# Altium integrated library TI Power Management Linear Regulator Dual Channel LDO.IntLib: 299 symbols (part 2 of 15)
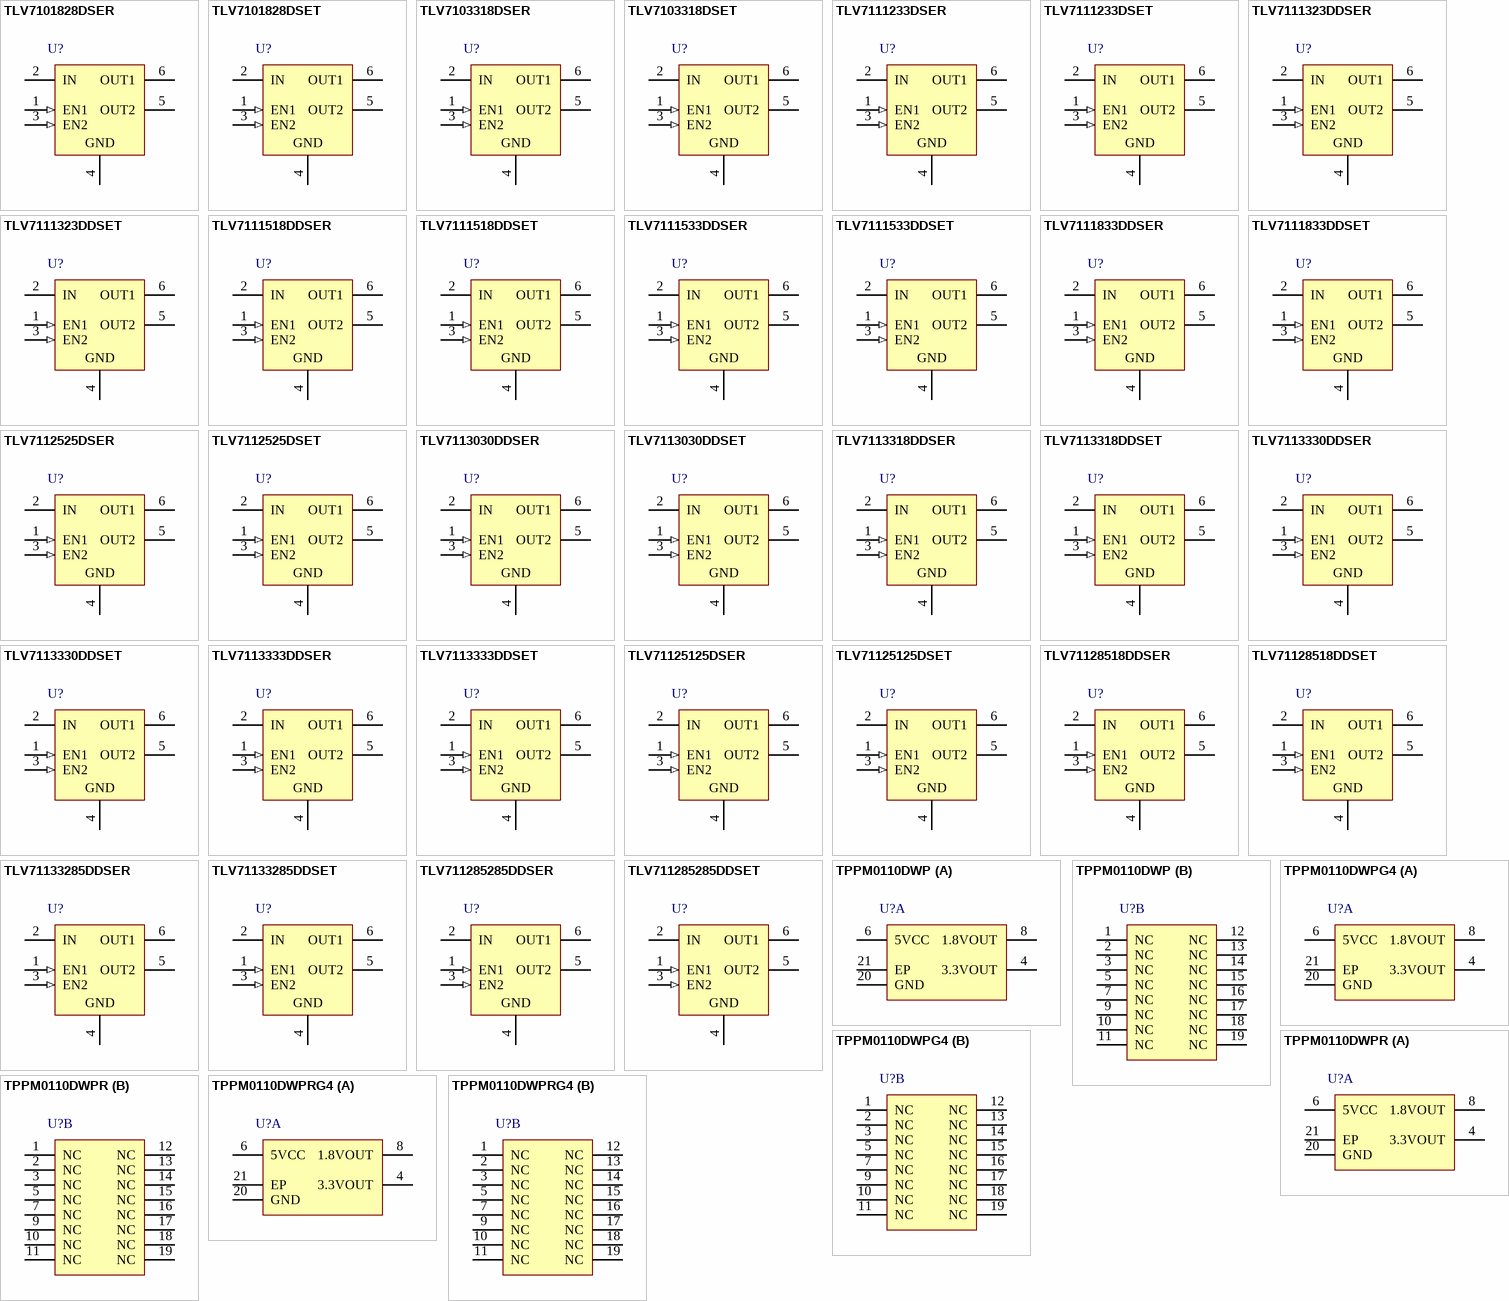
[diagram p12: symbols TLV7101828DSER to TPPM0110DWPRG4]

## TLV7113330DDSET
designator U?
Dual Output High PSRR LDO, 200 mA, Fixed 3.3, 3.0 V Output, 2 to 5.5 V Input, 6-pin WSON (DSE), -40 to 125 degC, Green (RoHS & no Sb/Br); Manufacturer: Texas Instruments; PartNumber: TLV7113330DDSET; Iout(Max)(A): 0.2; SubFamily: Dual Channel LDO; Vdo(Typ)(mV): 150; Vin(Max)(V): 5.5; Vin(Min)(V): 2; DatasheetVersion: SBVS142A; PackageVersion: 4207810/A; PackageReference: DSE6; PackageDescription: 6-Pin Plastic Small Outline, Body 1.5 x 1.5 mm, Pitch 0.5 mm; Supplier 1: Digi-Key; Supplier Part Number 1: 296-32422-2-ND; Supplier 2: Digi-Key; Supplier Part Number 2: 296-32422-1-ND; Supplier 3: Digi-Key; Supplier Part Number 3: 296-32422-6-ND; Supplier 4: Mouser; Supplier Part Number 4: 595-TLV7113330DDSET; Eco-Plan: Green (RoHS & no Sb/Br); Fixed Output Options(V): 3.3, 3.0; Mounting Technology: Surface Mount; ComponentLink1Description: Manufacturer URL; ComponentLink1URL: http://www.ti.com/; ComponentLink2Description: Datasheet; ComponentLink2URL: http://www.ti.com/general/docs/lit/getliterature.tsp?genericPartNumber=TLV7113330D&fileType=pdf; ComponentLink3Description: Package Specification; ComponentLink3URL: http://www.ti.com/litv/pdf/mpds287
footprint TI-DSE6_V (SON, 6-Leads, Body 1.5x1.5mm, Pitch 0.5mm)
pins: 1 EN1 (in) "Enable pin for regulator 1.Driving EN1 over 0.9V turns on regulator 1. Driving EN below0.4V puts regulator 1 into shutdown mode.", 2 IN (power) "Input pin. A small capacitor is needed from this pin to ground to assure stability. See Input and Output Capacitor Requirements in the Application Information section for more details.", 3 EN2 (in) "Enable pin for regulator 2.Driving EN2 over 0.9V turns on regulator 2. Driving EN2 below 0.4V puts regulator 2 into shutdown mode.", 4 GND (power) "Ground pin", 5 OUT2 (power) "Regulated output voltage pin. A small 1mF ceramic capacitor is needed from this pin to ground to assure stability. See Input and Output Capacitor Requirements in the Application Information section for more details.", 6 OUT1 (power) "Regulated output voltage pin. A small 1mF ceramic capacitor is needed from this pin to ground to assure stability. See Input and Output Capacitor Requirements in the Application Information section for more details."

## TLV7113333DDSER
designator U?
Dual Output High PSRR LDO, 200 mA, Fixed 3.3 V Output, 2 to 5.5 V Input, 6-pin WSON (DSE), -40 to 125 degC, Green (RoHS & no Sb/Br); Manufacturer: Texas Instruments; PartNumber: TLV7113333DDSER; Fixed Output Options(V): 3.3; Iout(Max)(A): 0.2; Iq(Typ)(mA): 0.03; SubFamily: Dual Channel LDO; Vdo(Typ)(mV): 150; Vin(Max)(V): 5.5; Vin(Min)(V): 2; DatasheetVersion: SBVS142A; PackageVersion: 4207810/A; PackageReference: DSE6; PackageDescription: 6-Pin Plastic Small Outline, Body 1.5 x 1.5 mm, Pitch 0.5 mm; Supplier 1: Digi-Key; Supplier Part Number 1: TLV7113333DDSER-ND; Supplier 2: Mouser; Supplier Part Number 2: 595-TLV7113333DDSER; Eco-Plan: Green (RoHS & no Sb/Br); Mounting Technology: Surface Mount; ComponentLink1Description: Manufacturer URL; ComponentLink1URL: http://www.ti.com/; ComponentLink2Description: Datasheet; ComponentLink2URL: http://www.ti.com/general/docs/lit/getliterature.tsp?genericPartNumber=TLV7113333D&fileType=pdf; ComponentLink3Description: Package Specification; ComponentLink3URL: http://www.ti.com/litv/pdf/mpds287
footprint TI-DSE6_V (SON, 6-Leads, Body 1.5x1.5mm, Pitch 0.5mm)
pins: 1 EN1 (in) "Enable pin for regulator 1.Driving EN1 over 0.9V turns on regulator 1. Driving EN below0.4V puts regulator 1 into shutdown mode.", 2 IN (power) "Input pin. A small capacitor is needed from this pin to ground to assure stability. See Input and Output Capacitor Requirements in the Application Information section for more details.", 3 EN2 (in) "Enable pin for regulator 2.Driving EN2 over 0.9V turns on regulator 2. Driving EN2 below 0.4V puts regulator 2 into shutdown mode.", 4 GND (power) "Ground pin", 5 OUT2 (power) "Regulated output voltage pin. A small 1mF ceramic capacitor is needed from this pin to ground to assure stability. See Input and Output Capacitor Requirements in the Application Information section for more details.", 6 OUT1 (power) "Regulated output voltage pin. A small 1mF ceramic capacitor is needed from this pin to ground to assure stability. See Input and Output Capacitor Requirements in the Application Information section for more details."

## TLV7113333DDSET
designator U?
Dual Output High PSRR LDO, 200 mA, Fixed 3.3 V Output, 2 to 5.5 V Input, 6-pin WSON (DSE), -40 to 125 degC, Green (RoHS & no Sb/Br); Manufacturer: Texas Instruments; PartNumber: TLV7113333DDSET; Fixed Output Options(V): 3.3; Iout(Max)(A): 0.2; Iq(Typ)(mA): 0.03; SubFamily: Dual Channel LDO; Vdo(Typ)(mV): 150; Vin(Max)(V): 5.5; Vin(Min)(V): 2; DatasheetVersion: SBVS142A; PackageVersion: 4207810/A; PackageReference: DSE6; PackageDescription: 6-Pin Plastic Small Outline, Body 1.5 x 1.5 mm, Pitch 0.5 mm; Supplier 1: Digi-Key; Supplier Part Number 1: 296-28766-2-ND; Supplier 2: Digi-Key; Supplier Part Number 2: 296-28766-1-ND; Supplier 3: Digi-Key; Supplier Part Number 3: 296-28766-6-ND; Supplier 4: Mouser; Supplier Part Number 4: 595-TLV7113333DDSET; Eco-Plan: Green (RoHS & no Sb/Br); Mounting Technology: Surface Mount; ComponentLink1Description: Manufacturer URL; ComponentLink1URL: http://www.ti.com/; ComponentLink2Description: Datasheet; ComponentLink2URL: http://www.ti.com/general/docs/lit/getliterature.tsp?genericPartNumber=TLV7113333D&fileType=pdf; ComponentLink3Description: Package Specification; ComponentLink3URL: http://www.ti.com/litv/pdf/mpds287
footprint TI-DSE6_V (SON, 6-Leads, Body 1.5x1.5mm, Pitch 0.5mm)
pins: 1 EN1 (in) "Enable pin for regulator 1.Driving EN1 over 0.9V turns on regulator 1. Driving EN below0.4V puts regulator 1 into shutdown mode.", 2 IN (power) "Input pin. A small capacitor is needed from this pin to ground to assure stability. See Input and Output Capacitor Requirements in the Application Information section for more details.", 3 EN2 (in) "Enable pin for regulator 2.Driving EN2 over 0.9V turns on regulator 2. Driving EN2 below 0.4V puts regulator 2 into shutdown mode.", 4 GND (power) "Ground pin", 5 OUT2 (power) "Regulated output voltage pin. A small 1mF ceramic capacitor is needed from this pin to ground to assure stability. See Input and Output Capacitor Requirements in the Application Information section for more details.", 6 OUT1 (power) "Regulated output voltage pin. A small 1mF ceramic capacitor is needed from this pin to ground to assure stability. See Input and Output Capacitor Requirements in the Application Information section for more details."

## TLV71125125DSER
designator U?
Dual Output High PSRR LDO, 200 mA, Fixed 2.5, 1.25 V Output, 2 to 5.5 V Input, 6-pin WSON (DSE), -40 to 125 degC, Green (RoHS & no Sb/Br); Manufacturer: Texas Instruments; PartNumber: TLV71125125DSER; Iout(Max)(A): 0.2; Iq(Typ)(mA): 0.03; SubFamily: Dual Channel LDO; Vdo(Typ)(mV): 175; Vin(Max)(V): 5.5; Vin(Min)(V): 2; Vout(Max)(V): 4.8; Vout(Min)(V): 0.7; DatasheetVersion: SBVS142A; PackageVersion: 4207810/A; PackageReference: DSE6; PackageDescription: 6-Pin Plastic Small Outline, Body 1.5 x 1.5 mm, Pitch 0.5 mm; Supplier 1: Digi-Key; Supplier Part Number 1: 296-28912-2-ND; Supplier 2: Digi-Key; Supplier Part Number 2: 296-28912-1-ND; Supplier 3: Digi-Key; Supplier Part Number 3: 296-28912-6-ND; Supplier 4: Mouser; Supplier Part Number 4: 595-TLV71125125DSER; Eco-Plan: Green (RoHS & no Sb/Br); Fixed Output Options(V): 2.5, 1.25; Mounting Technology: Surface Mount; ComponentLink1Description: Manufacturer URL; ComponentLink1URL: http://www.ti.com/; ComponentLink2Description: Datasheet; ComponentLink2URL: http://www.ti.com/general/docs/lit/getliterature.tsp?genericPartNumber=TLV71125125&fileType=pdf; ComponentLink3Description: Package Specification; ComponentLink3URL: http://www.ti.com/litv/pdf/mpds287
footprint TI-DSE6_V (SON, 6-Leads, Body 1.5x1.5mm, Pitch 0.5mm)
pins: 1 EN1 (in) "Enable pin for regulator 1.Driving EN1 over 0.9V turns on regulator 1. Driving EN below0.4V puts regulator 1 into shutdown mode.", 2 IN (power) "Input pin. A small capacitor is needed from this pin to ground to assure stability. See Input and Output Capacitor Requirements in the Application Information section for more details.", 3 EN2 (in) "Enable pin for regulator 2.Driving EN2 over 0.9V turns on regulator 2. Driving EN2 below 0.4V puts regulator 2 into shutdown mode.", 4 GND (power) "Ground pin", 5 OUT2 (power) "Regulated output voltage pin. A small 1mF ceramic capacitor is needed from this pin to ground to assure stability. See Input and Output Capacitor Requirements in the Application Information section for more details.", 6 OUT1 (power) "Regulated output voltage pin. A small 1mF ceramic capacitor is needed from this pin to ground to assure stability. See Input and Output Capacitor Requirements in the Application Information section for more details."

## TLV71125125DSET
designator U?
Dual Output High PSRR LDO, 200 mA, Fixed 2.5, 1.25 V Output, 2 to 5.5 V Input, 6-pin WSON (DSE), -40 to 125 degC, Green (RoHS & no Sb/Br); Manufacturer: Texas Instruments; PartNumber: TLV71125125DSET; Iout(Max)(A): 0.2; Iq(Typ)(mA): 0.03; SubFamily: Dual Channel LDO; Vdo(Typ)(mV): 175; Vin(Max)(V): 5.5; Vin(Min)(V): 2; Vout(Max)(V): 4.8; Vout(Min)(V): 0.7; DatasheetVersion: SBVS142A; PackageVersion: 4207810/A; PackageReference: DSE6; PackageDescription: 6-Pin Plastic Small Outline, Body 1.5 x 1.5 mm, Pitch 0.5 mm; Supplier 1: Digi-Key; Supplier Part Number 1: TLV71125125DSET-ND; Supplier 2: Mouser; Supplier Part Number 2: 595-TLV71125125DSET; Eco-Plan: Green (RoHS & no Sb/Br); Fixed Output Options(V): 2.5, 1.25; Mounting Technology: Surface Mount; ComponentLink1Description: Manufacturer URL; ComponentLink1URL: http://www.ti.com/; ComponentLink2Description: Datasheet; ComponentLink2URL: http://www.ti.com/general/docs/lit/getliterature.tsp?genericPartNumber=TLV71125125&fileType=pdf; ComponentLink3Description: Package Specification; ComponentLink3URL: http://www.ti.com/litv/pdf/mpds287
footprint TI-DSE6_V (SON, 6-Leads, Body 1.5x1.5mm, Pitch 0.5mm)
pins: 1 EN1 (in) "Enable pin for regulator 1.Driving EN1 over 0.9V turns on regulator 1. Driving EN below0.4V puts regulator 1 into shutdown mode.", 2 IN (power) "Input pin. A small capacitor is needed from this pin to ground to assure stability. See Input and Output Capacitor Requirements in the Application Information section for more details.", 3 EN2 (in) "Enable pin for regulator 2.Driving EN2 over 0.9V turns on regulator 2. Driving EN2 below 0.4V puts regulator 2 into shutdown mode.", 4 GND (power) "Ground pin", 5 OUT2 (power) "Regulated output voltage pin. A small 1mF ceramic capacitor is needed from this pin to ground to assure stability. See Input and Output Capacitor Requirements in the Application Information section for more details.", 6 OUT1 (power) "Regulated output voltage pin. A small 1mF ceramic capacitor is needed from this pin to ground to assure stability. See Input and Output Capacitor Requirements in the Application Information section for more details."

## TLV71128518DDSER
designator U?
Dual Output High PSRR LDO, 200 mA, Fixed 2.85, 1.8 V Output, 2 to 5.5 V Input, 6-pin WSON (DSE), -40 to 125 degC, Green (RoHS & no Sb/Br); Manufacturer: Texas Instruments; PartNumber: TLV71128518DDSER; Iout(Max)(A): 0.2; Iq(Typ)(mA): 0.03; SubFamily: Dual Channel LDO; Vdo(Typ)(mV): 150; Vin(Max)(V): 5.5; Vin(Min)(V): 2; DatasheetVersion: SBVS142A; PackageVersion: 4207810/A; PackageReference: DSE6; PackageDescription: 6-Pin Plastic Small Outline, Body 1.5 x 1.5 mm, Pitch 0.5 mm; Supplier 1: Digi-Key; Supplier Part Number 1: 296-30246-2-ND; Supplier 2: Digi-Key; Supplier Part Number 2: 296-30246-1-ND; Supplier 3: Digi-Key; Supplier Part Number 3: 296-30246-6-ND; Supplier 4: Farnell; Supplier Part Number 4: 2095839; Supplier 5: Newark; Supplier Part Number 5: 91T5096; Supplier 6: Mouser; Supplier Part Number 6: 595-TLV71128518DDSER; Eco-Plan: Green (RoHS & no Sb/Br); Fixed Output Options(V): 2.85, 1.8; Mounting Technology: Surface Mount; ComponentLink1Description: Manufacturer URL; ComponentLink1URL: http://www.ti.com/; ComponentLink2Description: Datasheet; ComponentLink2URL: http://www.ti.com/general/docs/lit/getliterature.tsp?genericPartNumber=TLV71128518D&fileType=pdf; ComponentLink3Description: Package Specification; ComponentLink3URL: http://www.ti.com/litv/pdf/mpds287
footprint TI-DSE6_V (SON, 6-Leads, Body 1.5x1.5mm, Pitch 0.5mm)
pins: 1 EN1 (in) "Enable pin for regulator 1.Driving EN1 over 0.9V turns on regulator 1. Driving EN below0.4V puts regulator 1 into shutdown mode.", 2 IN (power) "Input pin. A small capacitor is needed from this pin to ground to assure stability. See Input and Output Capacitor Requirements in the Application Information section for more details.", 3 EN2 (in) "Enable pin for regulator 2.Driving EN2 over 0.9V turns on regulator 2. Driving EN2 below 0.4V puts regulator 2 into shutdown mode.", 4 GND (power) "Ground pin", 5 OUT2 (power) "Regulated output voltage pin. A small 1mF ceramic capacitor is needed from this pin to ground to assure stability. See Input and Output Capacitor Requirements in the Application Information section for more details.", 6 OUT1 (power) "Regulated output voltage pin. A small 1mF ceramic capacitor is needed from this pin to ground to assure stability. See Input and Output Capacitor Requirements in the Application Information section for more details."

## TLV71128518DDSET
designator U?
Dual Output High PSRR LDO, 200 mA, Fixed 2.85, 1.8 V Output, 2 to 5.5 V Input, 6-pin WSON (DSE), -40 to 125 degC, Green (RoHS & no Sb/Br); Manufacturer: Texas Instruments; PartNumber: TLV71128518DDSET; Iout(Max)(A): 0.2; Iq(Typ)(mA): 0.03; SubFamily: Dual Channel LDO; Vdo(Typ)(mV): 150; Vin(Max)(V): 5.5; Vin(Min)(V): 2; DatasheetVersion: SBVS142A; PackageVersion: 4207810/A; PackageReference: DSE6; PackageDescription: 6-Pin Plastic Small Outline, Body 1.5 x 1.5 mm, Pitch 0.5 mm; Supplier 1: Digi-Key; Supplier Part Number 1: 296-32420-2-ND; Supplier 2: Digi-Key; Supplier Part Number 2: 296-32420-1-ND; Supplier 3: Digi-Key; Supplier Part Number 3: 296-32420-6-ND; Supplier 4: Mouser; Supplier Part Number 4: 595-TLV71128518DDSET; Eco-Plan: Green (RoHS & no Sb/Br); Fixed Output Options(V): 2.85, 1.8; Mounting Technology: Surface Mount; ComponentLink1Description: Manufacturer URL; ComponentLink1URL: http://www.ti.com/; ComponentLink2Description: Datasheet; ComponentLink2URL: http://www.ti.com/general/docs/lit/getliterature.tsp?genericPartNumber=TLV71128518D&fileType=pdf; ComponentLink3Description: Package Specification; ComponentLink3URL: http://www.ti.com/litv/pdf/mpds287
footprint TI-DSE6_V (SON, 6-Leads, Body 1.5x1.5mm, Pitch 0.5mm)
pins: 1 EN1 (in) "Enable pin for regulator 1.Driving EN1 over 0.9V turns on regulator 1. Driving EN below0.4V puts regulator 1 into shutdown mode.", 2 IN (power) "Input pin. A small capacitor is needed from this pin to ground to assure stability. See Input and Output Capacitor Requirements in the Application Information section for more details.", 3 EN2 (in) "Enable pin for regulator 2.Driving EN2 over 0.9V turns on regulator 2. Driving EN2 below 0.4V puts regulator 2 into shutdown mode.", 4 GND (power) "Ground pin", 5 OUT2 (power) "Regulated output voltage pin. A small 1mF ceramic capacitor is needed from this pin to ground to assure stability. See Input and Output Capacitor Requirements in the Application Information section for more details.", 6 OUT1 (power) "Regulated output voltage pin. A small 1mF ceramic capacitor is needed from this pin to ground to assure stability. See Input and Output Capacitor Requirements in the Application Information section for more details."

## TLV71133285DDSER
designator U?
Dual Output High PSRR LDO, 200 mA, Fixed 3.3, 2.85 V Output, 2 to 5.5 V Input, 6-pin WSON (DSE), -40 to 125 degC, Green (RoHS & no Sb/Br); Manufacturer: Texas Instruments; PartNumber: TLV71133285DDSER; Iout(Max)(A): 0.2; Iq(Typ)(mA): 0.03; SubFamily: Dual Channel LDO; Vdo(Typ)(mV): 150; Vin(Max)(V): 5.5; Vin(Min)(V): 2; DatasheetVersion: SBVS142A; PackageVersion: 4207810/A; PackageReference: DSE6; PackageDescription: 6-Pin Plastic Small Outline, Body 1.5 x 1.5 mm, Pitch 0.5 mm; Supplier 1: Digi-Key; Supplier Part Number 1: TLV71133285DDSER-ND; Supplier 2: Newark; Supplier Part Number 2: 92T2335; Supplier 3: Mouser; Supplier Part Number 3: 595-TLV71133285DDSER; Eco-Plan: Green (RoHS & no Sb/Br); Fixed Output Options(V): 3.3, 2.85; Mounting Technology: Surface Mount; ComponentLink1Description: Manufacturer URL; ComponentLink1URL: http://www.ti.com/; ComponentLink2Description: Datasheet; ComponentLink2URL: http://www.ti.com/general/docs/lit/getliterature.tsp?genericPartNumber=TLV71133285D&fileType=pdf; ComponentLink3Description: Package Specification; ComponentLink3URL: http://www.ti.com/litv/pdf/mpds287
footprint TI-DSE6_V (SON, 6-Leads, Body 1.5x1.5mm, Pitch 0.5mm)
pins: 1 EN1 (in) "Enable pin for regulator 1.Driving EN1 over 0.9V turns on regulator 1. Driving EN below0.4V puts regulator 1 into shutdown mode.", 2 IN (power) "Input pin. A small capacitor is needed from this pin to ground to assure stability. See Input and Output Capacitor Requirements in the Application Information section for more details.", 3 EN2 (in) "Enable pin for regulator 2.Driving EN2 over 0.9V turns on regulator 2. Driving EN2 below 0.4V puts regulator 2 into shutdown mode.", 4 GND (power) "Ground pin", 5 OUT2 (power) "Regulated output voltage pin. A small 1mF ceramic capacitor is needed from this pin to ground to assure stability. See Input and Output Capacitor Requirements in the Application Information section for more details.", 6 OUT1 (power) "Regulated output voltage pin. A small 1mF ceramic capacitor is needed from this pin to ground to assure stability. See Input and Output Capacitor Requirements in the Application Information section for more details."

## TLV71133285DDSET
designator U?
Dual Output High PSRR LDO, 200 mA, Fixed 3.3, 2.85 V Output, 2 to 5.5 V Input, 6-pin WSON (DSE), -40 to 125 degC, Green (RoHS & no Sb/Br); Manufacturer: Texas Instruments; PartNumber: TLV71133285DDSET; Iout(Max)(A): 0.2; Iq(Typ)(mA): 0.03; SubFamily: Dual Channel LDO; Vdo(Typ)(mV): 150; Vin(Max)(V): 5.5; Vin(Min)(V): 2; DatasheetVersion: SBVS142A; PackageVersion: 4207810/A; PackageReference: DSE6; PackageDescription: 6-Pin Plastic Small Outline, Body 1.5 x 1.5 mm, Pitch 0.5 mm; Supplier 1: Digi-Key; Supplier Part Number 1: 296-30352-2-ND; Supplier 2: Digi-Key; Supplier Part Number 2: 296-30352-1-ND; Supplier 3: Digi-Key; Supplier Part Number 3: 296-30352-6-ND; Supplier 4: Farnell; Supplier Part Number 4: 2099914; Supplier 5: Newark; Supplier Part Number 5: 05W5837; Supplier 6: Newark; Supplier Part Number 6: 92T2336; Supplier 7: Mouser; Supplier Part Number 7: 595-TLV71133285DDSET; Eco-Plan: Green (RoHS & no Sb/Br); Fixed Output Options(V): 3.3, 2.85; Mounting Technology: Surface Mount; ComponentLink1Description: Manufacturer URL; ComponentLink1URL: http://www.ti.com/; ComponentLink2Description: Datasheet; ComponentLink2URL: http://www.ti.com/general/docs/lit/getliterature.tsp?genericPartNumber=TLV71133285D&fileType=pdf; ComponentLink3Description: Package Specification; ComponentLink3URL: http://www.ti.com/litv/pdf/mpds287
footprint TI-DSE6_V (SON, 6-Leads, Body 1.5x1.5mm, Pitch 0.5mm)
pins: 1 EN1 (in) "Enable pin for regulator 1.Driving EN1 over 0.9V turns on regulator 1. Driving EN below0.4V puts regulator 1 into shutdown mode.", 2 IN (power) "Input pin. A small capacitor is needed from this pin to ground to assure stability. See Input and Output Capacitor Requirements in the Application Information section for more details.", 3 EN2 (in) "Enable pin for regulator 2.Driving EN2 over 0.9V turns on regulator 2. Driving EN2 below 0.4V puts regulator 2 into shutdown mode.", 4 GND (power) "Ground pin", 5 OUT2 (power) "Regulated output voltage pin. A small 1mF ceramic capacitor is needed from this pin to ground to assure stability. See Input and Output Capacitor Requirements in the Application Information section for more details.", 6 OUT1 (power) "Regulated output voltage pin. A small 1mF ceramic capacitor is needed from this pin to ground to assure stability. See Input and Output Capacitor Requirements in the Application Information section for more details."

## TLV711285285DDSER
designator U?
Dual Output High PSRR LDO, 200 mA, Fixed 2.85 V Output, 2 to 5.5 V Input, 6-pin WSON (DSE), -40 to 125 degC, Green (RoHS & no Sb/Br); Manufacturer: Texas Instruments; PartNumber: TLV711285285DDSER; Fixed Output Options(V): 2.85; Iout(Max)(A): 0.2; Iq(Typ)(mA): 0.03; SubFamily: Dual Channel LDO; Vdo(Typ)(mV): 150; Vin(Max)(V): 5.5; Vin(Min)(V): 2; DatasheetVersion: SBVS142A; PackageVersion: 4207810/A; PackageReference: DSE6; PackageDescription: 6-Pin Plastic Small Outline, Body 1.5 x 1.5 mm, Pitch 0.5 mm; Supplier 1: Digi-Key; Supplier Part Number 1: 296-29497-2-ND; Supplier 2: Digi-Key; Supplier Part Number 2: 296-29497-1-ND; Supplier 3: Digi-Key; Supplier Part Number 3: 296-29497-6-ND; Supplier 4: Mouser; Supplier Part Number 4: 595-LV711285285DDSER; Eco-Plan: Green (RoHS & no Sb/Br); Mounting Technology: Surface Mount; ComponentLink1Description: Manufacturer URL; ComponentLink1URL: http://www.ti.com/; ComponentLink2Description: Datasheet; ComponentLink2URL: http://www.ti.com/general/docs/lit/getliterature.tsp?genericPartNumber=TLV711285285D&fileType=pdf; ComponentLink3Description: Package Specification; ComponentLink3URL: http://www.ti.com/litv/pdf/mpds287
footprint TI-DSE6_V (SON, 6-Leads, Body 1.5x1.5mm, Pitch 0.5mm)
pins: 1 EN1 (in) "Enable pin for regulator 1.Driving EN1 over 0.9V turns on regulator 1. Driving EN below0.4V puts regulator 1 into shutdown mode.", 2 IN (power) "Input pin. A small capacitor is needed from this pin to ground to assure stability. See Input and Output Capacitor Requirements in the Application Information section for more details.", 3 EN2 (in) "Enable pin for regulator 2.Driving EN2 over 0.9V turns on regulator 2. Driving EN2 below 0.4V puts regulator 2 into shutdown mode.", 4 GND (power) "Ground pin", 5 OUT2 (power) "Regulated output voltage pin. A small 1mF ceramic capacitor is needed from this pin to ground to assure stability. See Input and Output Capacitor Requirements in the Application Information section for more details.", 6 OUT1 (power) "Regulated output voltage pin. A small 1mF ceramic capacitor is needed from this pin to ground to assure stability. See Input and Output Capacitor Requirements in the Application Information section for more details."

## TLV711285285DDSET
designator U?
Dual Output High PSRR LDO, 200 mA, Fixed 2.85 V Output, 2 to 5.5 V Input, 6-pin WSON (DSE), -40 to 125 degC, Green (RoHS & no Sb/Br); Manufacturer: Texas Instruments; PartNumber: TLV711285285DDSET; Fixed Output Options(V): 2.85; Iout(Max)(A): 0.2; Iq(Typ)(mA): 0.03; SubFamily: Dual Channel LDO; Vdo(Typ)(mV): 150; Vin(Max)(V): 5.5; Vin(Min)(V): 2; DatasheetVersion: SBVS142A; PackageVersion: 4207810/A; PackageReference: DSE6; PackageDescription: 6-Pin Plastic Small Outline, Body 1.5 x 1.5 mm, Pitch 0.5 mm; Supplier 1: Digi-Key; Supplier Part Number 1: 296-29757-2-ND; Supplier 2: Digi-Key; Supplier Part Number 2: 296-29757-1-ND; Supplier 3: Digi-Key; Supplier Part Number 3: 296-29757-6-ND; Supplier 4: Farnell; Supplier Part Number 4: 2064247; Supplier 5: Farnell; Supplier Part Number 5: 2064247RL; Supplier 6: Mouser; Supplier Part Number 6: 595-LV711285285DDSET; Eco-Plan: Green (RoHS & no Sb/Br); Mounting Technology: Surface Mount; ComponentLink1Description: Manufacturer URL; ComponentLink1URL: http://www.ti.com/; ComponentLink2Description: Datasheet; ComponentLink2URL: http://www.ti.com/general/docs/lit/getliterature.tsp?genericPartNumber=TLV711285285D&fileType=pdf; ComponentLink3Description: Package Specification; ComponentLink3URL: http://www.ti.com/litv/pdf/mpds287
footprint TI-DSE6_V (SON, 6-Leads, Body 1.5x1.5mm, Pitch 0.5mm)
pins: 1 EN1 (in) "Enable pin for regulator 1.Driving EN1 over 0.9V turns on regulator 1. Driving EN below0.4V puts regulator 1 into shutdown mode.", 2 IN (power) "Input pin. A small capacitor is needed from this pin to ground to assure stability. See Input and Output Capacitor Requirements in the Application Information section for more details.", 3 EN2 (in) "Enable pin for regulator 2.Driving EN2 over 0.9V turns on regulator 2. Driving EN2 below 0.4V puts regulator 2 into shutdown mode.", 4 GND (power) "Ground pin", 5 OUT2 (power) "Regulated output voltage pin. A small 1mF ceramic capacitor is needed from this pin to ground to assure stability. See Input and Output Capacitor Requirements in the Application Information section for more details.", 6 OUT1 (power) "Regulated output voltage pin. A small 1mF ceramic capacitor is needed from this pin to ground to assure stability. See Input and Output Capacitor Requirements in the Application Information section for more details."

## TPPM0110DWP
designator U?
Dual Output LDO, 1.5 A, Fixed 3.3, 1.8 V Output, 4.7 to 5.3 V Input, 20-pin SOPowerPAD (DWP), 0 to 70 degC, Green (RoHS & no Sb/Br); Manufacturer: Texas Instruments; PartNumber: TPPM0110DWP; Iout(Max)(A): 1.5; Iout2(A): 0.3; Iq(Typ)(mA): 1; SubFamily: Dual Channel LDO; Vdo(Typ)(mV): 999; Vin(Max)(V): 5.3; Vin(Min)(V): 4.7; Vout(Max)(V): 3.3; Vout2(Max)(V): 1.8; DatasheetVersion: SLVS365; PackageVersion: 4147575/C; PackageReference: DWP20-3470X2350TP; PackageDescription: 20-Pin Plastic Small Outline, Body 7.52 x 12.82 mm, Pitch 1.27 mm; Supplier 1: Digi-Key; Supplier Part Number 1: 296-34579-5-ND; Supplier 2: Mouser; Supplier Part Number 2: 595-TPPM0110DWP; Eco-Plan: Green (RoHS & no Sb/Br); Fixed Output Options(V): 3.3, 1.8; Vout(Min)(V): 3.3; Vout2(Min)(V): 1.8; Mounting Technology: Surface Mount; ComponentLink1Description: Manufacturer URL; ComponentLink1URL: http://www.ti.com/; ComponentLink2Description: Datasheet; ComponentLink2URL: http://www.ti.com/general/docs/lit/getliterature.tsp?genericPartNumber=TPPM0110&fileType=pdf; ComponentLink3Description: Package Specification; ComponentLink3URL: http://www.ti.com/lit/ml/mpds032b/mpds032b.pdf
footprint TI-DWP20-3470X2350TP_N (SOP, 20-Leads, Body 12.825x7.52mm, Pitch 1.27mm, Thermal Pad 3.47x2.35mm, IPC Medium Density)
footprint TI-DWP20-3470X2350TP_L (SOP, 20-Leads, Body 12.825x7.52mm, Pitch 1.27mm, Thermal Pad 3.47x2.35mm, IPC High Density)
footprint TI-DWP20-3470X2350TP_M (SOP, 20-Leads, Body 12.825x7.52mm, Pitch 1.27mm, Thermal Pad 3.47x2.35mm, IPC Low Density)
part A pins: 4 3.3VOUT (power) "3.3-V regulated output", 6 5VCC (power) "5-V input", 8 1.8VOUT (power) "1.8-V regulated output", 20 GND (power) "Ground", 21 EP (power) "Exposed Thermal Pad"
part B pins: 1 NC "No connection", 2 NC "No connection", 3 NC "No connection", 5 NC "No connection", 7 NC "No connection", 9 NC "No connection", 10 NC "No connection", 11 NC "No connection", 12 NC "No connection", 13 NC "No connection", 14 NC "No connection", 15 NC "No connection", 16 NC "No connection", 17 NC "No connection", 18 NC "No connection", 19 NC "No connection"

## TPPM0110DWPG4
designator U?
Dual Output LDO, 1.5 A, Fixed 3.3, 1.8 V Output, 4.7 to 5.3 V Input, 20-pin SOPowerPAD (DWP), 0 to 70 degC, Green (RoHS & no Sb/Br); Manufacturer: Texas Instruments; PartNumber: TPPM0110DWPG4; Iout(Max)(A): 1.5; Iout2(A): 0.3; Iq(Typ)(mA): 1; SubFamily: Dual Channel LDO; Vdo(Typ)(mV): 999; Vin(Max)(V): 5.3; Vin(Min)(V): 4.7; Vout(Max)(V): 3.3; Vout2(Max)(V): 1.8; DatasheetVersion: SLVS365; PackageVersion: 4147575/C; PackageReference: DWP20-3470X2350TP; PackageDescription: 20-Pin Plastic Small Outline, Body 7.52 x 12.82 mm, Pitch 1.27 mm; Supplier 1: Digi-Key; Supplier Part Number 1: TPPM0110DWPG4-ND; Supplier 2: Mouser; Supplier Part Number 2: 595-TPPM0110DWPG4; Eco-Plan: Green (RoHS & no Sb/Br); Fixed Output Options(V): 3.3, 1.8; Vout(Min)(V): 3.3; Vout2(Min)(V): 1.8; Mounting Technology: Surface Mount; ComponentLink1Description: Manufacturer URL; ComponentLink1URL: http://www.ti.com/; ComponentLink2Description: Datasheet; ComponentLink2URL: http://www.ti.com/general/docs/lit/getliterature.tsp?genericPartNumber=TPPM0110&fileType=pdf; ComponentLink3Description: Package Specification; ComponentLink3URL: http://www.ti.com/lit/ml/mpds032b/mpds032b.pdf
footprint TI-DWP20-3470X2350TP_N (SOP, 20-Leads, Body 12.825x7.52mm, Pitch 1.27mm, Thermal Pad 3.47x2.35mm, IPC Medium Density)
footprint TI-DWP20-3470X2350TP_L (SOP, 20-Leads, Body 12.825x7.52mm, Pitch 1.27mm, Thermal Pad 3.47x2.35mm, IPC High Density)
footprint TI-DWP20-3470X2350TP_M (SOP, 20-Leads, Body 12.825x7.52mm, Pitch 1.27mm, Thermal Pad 3.47x2.35mm, IPC Low Density)
part A pins: 4 3.3VOUT (power) "3.3-V regulated output", 6 5VCC (power) "5-V input", 8 1.8VOUT (power) "1.8-V regulated output", 20 GND (power) "Ground", 21 EP (power) "Exposed Thermal Pad"
part B pins: 1 NC "No connection", 2 NC "No connection", 3 NC "No connection", 5 NC "No connection", 7 NC "No connection", 9 NC "No connection", 10 NC "No connection", 11 NC "No connection", 12 NC "No connection", 13 NC "No connection", 14 NC "No connection", 15 NC "No connection", 16 NC "No connection", 17 NC "No connection", 18 NC "No connection", 19 NC "No connection"

## TPPM0110DWPR
designator U?
Dual Output LDO, 1.5 A, Fixed 3.3, 1.8 V Output, 4.7 to 5.3 V Input, 20-pin SOPowerPAD (DWP), 0 to 70 degC, Green (RoHS & no Sb/Br); Manufacturer: Texas Instruments; PartNumber: TPPM0110DWPR; Iout(Max)(A): 1.5; Iout2(A): 0.3; Iq(Typ)(mA): 1; SubFamily: Dual Channel LDO; Vdo(Typ)(mV): 999; Vin(Max)(V): 5.3; Vin(Min)(V): 4.7; Vout(Max)(V): 3.3; Vout2(Max)(V): 1.8; DatasheetVersion: SLVS365; PackageVersion: 4147575/C; PackageReference: DWP20-3470X2350TP; PackageDescription: 20-Pin Plastic Small Outline, Body 7.52 x 12.82 mm, Pitch 1.27 mm; Supplier 1: Digi-Key; Supplier Part Number 1: 296-10872-2-ND; Supplier 2: Digi-Key; Supplier Part Number 2: 296-10872-1-ND; Supplier 3: Digi-Key; Supplier Part Number 3: 296-10872-6-ND; Supplier 4: Mouser; Supplier Part Number 4: 595-TPPM0110DWPR; Eco-Plan: Green (RoHS & no Sb/Br); Fixed Output Options(V): 3.3, 1.8; Vout(Min)(V): 3.3; Vout2(Min)(V): 1.8; Mounting Technology: Surface Mount; ComponentLink1Description: Manufacturer URL; ComponentLink1URL: http://www.ti.com/; ComponentLink2Description: Datasheet; ComponentLink2URL: http://www.ti.com/general/docs/lit/getliterature.tsp?genericPartNumber=TPPM0110&fileType=pdf; ComponentLink3Description: Package Specification; ComponentLink3URL: http://www.ti.com/lit/ml/mpds032b/mpds032b.pdf
footprint TI-DWP20-3470X2350TP_N (SOP, 20-Leads, Body 12.825x7.52mm, Pitch 1.27mm, Thermal Pad 3.47x2.35mm, IPC Medium Density)
footprint TI-DWP20-3470X2350TP_L (SOP, 20-Leads, Body 12.825x7.52mm, Pitch 1.27mm, Thermal Pad 3.47x2.35mm, IPC High Density)
footprint TI-DWP20-3470X2350TP_M (SOP, 20-Leads, Body 12.825x7.52mm, Pitch 1.27mm, Thermal Pad 3.47x2.35mm, IPC Low Density)
part A pins: 4 3.3VOUT (power) "3.3-V regulated output", 6 5VCC (power) "5-V input", 8 1.8VOUT (power) "1.8-V regulated output", 20 GND (power) "Ground", 21 EP (power) "Exposed Thermal Pad"
part B pins: 1 NC "No connection", 2 NC "No connection", 3 NC "No connection", 5 NC "No connection", 7 NC "No connection", 9 NC "No connection", 10 NC "No connection", 11 NC "No connection", 12 NC "No connection", 13 NC "No connection", 14 NC "No connection", 15 NC "No connection", 16 NC "No connection", 17 NC "No connection", 18 NC "No connection", 19 NC "No connection"

## TPPM0110DWPRG4
designator U?
Dual Output LDO, 1.5 A, Fixed 3.3, 1.8 V Output, 4.7 to 5.3 V Input, 20-pin SOPowerPAD (DWP), 0 to 70 degC, Green (RoHS & no Sb/Br); Manufacturer: Texas Instruments; PartNumber: TPPM0110DWPRG4; Iout(Max)(A): 1.5; Iout2(A): 0.3; Iq(Typ)(mA): 1; SubFamily: Dual Channel LDO; Vdo(Typ)(mV): 999; Vin(Max)(V): 5.3; Vin(Min)(V): 4.7; Vout(Max)(V): 3.3; Vout2(Max)(V): 1.8; DatasheetVersion: SLVS365; PackageVersion: 4147575/C; PackageReference: DWP20-3470X2350TP; PackageDescription: 20-Pin Plastic Small Outline, Body 7.52 x 12.82 mm, Pitch 1.27 mm; Supplier 1: Digi-Key; Supplier Part Number 1: TPPM0110DWPRG4-ND; Supplier 2: Mouser; Supplier Part Number 2: 595-TPPM0110DWPRG4; Eco-Plan: Green (RoHS & no Sb/Br); Fixed Output Options(V): 3.3, 1.8; Vout(Min)(V): 3.3; Vout2(Min)(V): 1.8; Mounting Technology: Surface Mount; ComponentLink1Description: Manufacturer URL; ComponentLink1URL: http://www.ti.com/; ComponentLink2Description: Datasheet; ComponentLink2URL: http://www.ti.com/general/docs/lit/getliterature.tsp?genericPartNumber=TPPM0110&fileType=pdf; ComponentLink3Description: Package Specification; ComponentLink3URL: http://www.ti.com/lit/ml/mpds032b/mpds032b.pdf
footprint TI-DWP20-3470X2350TP_N (SOP, 20-Leads, Body 12.825x7.52mm, Pitch 1.27mm, Thermal Pad 3.47x2.35mm, IPC Medium Density)
footprint TI-DWP20-3470X2350TP_L (SOP, 20-Leads, Body 12.825x7.52mm, Pitch 1.27mm, Thermal Pad 3.47x2.35mm, IPC High Density)
footprint TI-DWP20-3470X2350TP_M (SOP, 20-Leads, Body 12.825x7.52mm, Pitch 1.27mm, Thermal Pad 3.47x2.35mm, IPC Low Density)
part A pins: 4 3.3VOUT (power) "3.3-V regulated output", 6 5VCC (power) "5-V input", 8 1.8VOUT (power) "1.8-V regulated output", 20 GND (power) "Ground", 21 EP (power) "Exposed Thermal Pad"
part B pins: 1 NC "No connection", 2 NC "No connection", 3 NC "No connection", 5 NC "No connection", 7 NC "No connection", 9 NC "No connection", 10 NC "No connection", 11 NC "No connection", 12 NC "No connection", 13 NC "No connection", 14 NC "No connection", 15 NC "No connection", 16 NC "No connection", 17 NC "No connection", 18 NC "No connection", 19 NC "No connection"

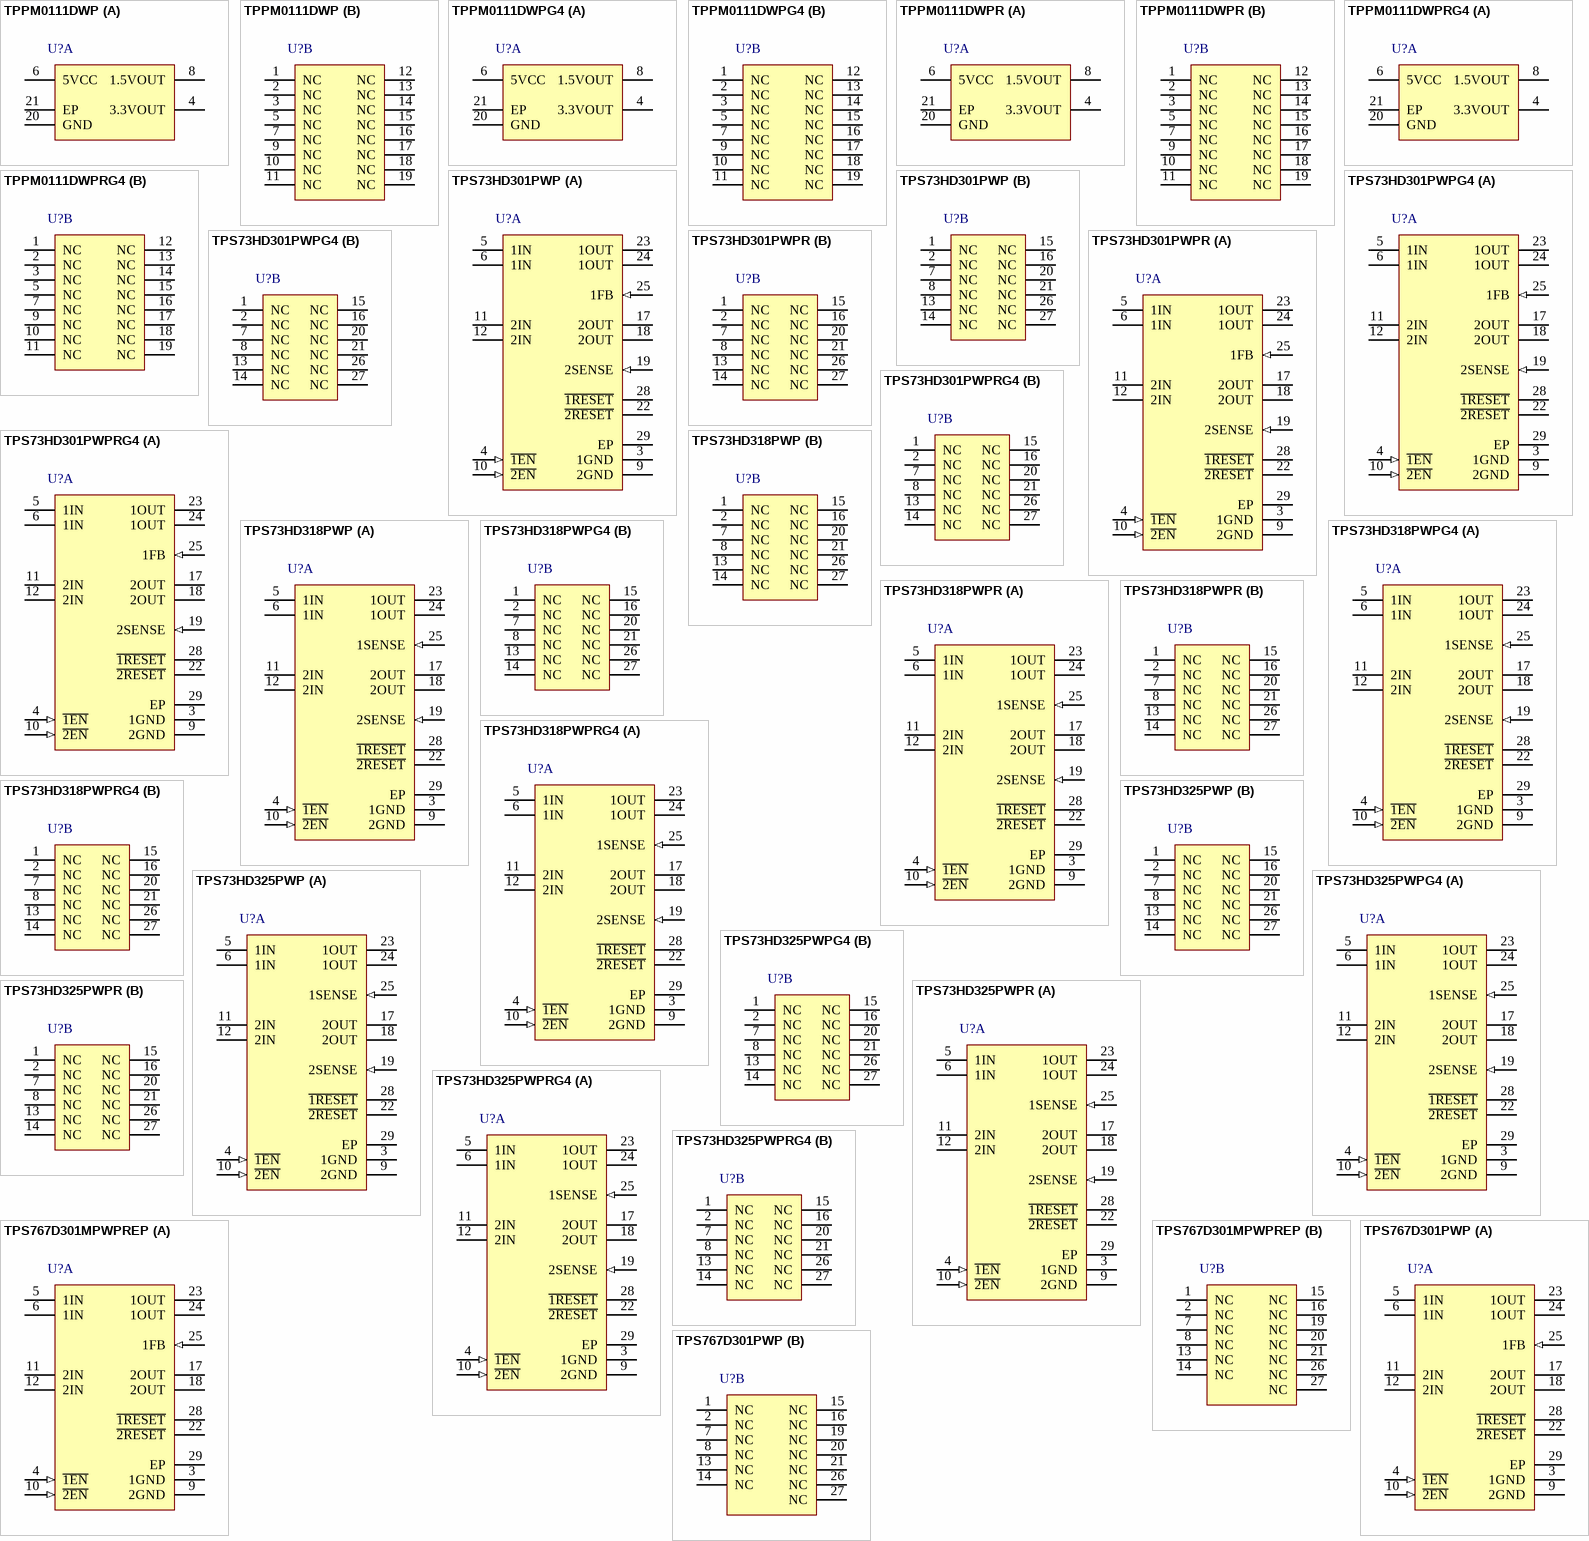
[diagram p1: symbols TPPM0111DWP to TPS767D301PWP]

## TPPM0111DWP
designator U?
Dual Output LDO, 1.5 A, Fixed 3.3, 1.5 V Output, 4.7 to 5.3 V Input, 20-pin SOPowerPAD (DWP), 0 to 70 degC, Green (RoHS & no Sb/Br); Manufacturer: Texas Instruments; PartNumber: TPPM0111DWP; Iout(Max)(A): 1.5; Iout2(A): 0.3; Iq(Typ)(mA): 1; SubFamily: Dual Channel LDO; Vdo(Typ)(mV): 999; Vin(Max)(V): 5.3; Vin(Min)(V): 4.7; Vout(Max)(V): 3.3; DatasheetVersion: SLVS414; PackageVersion: 4147575/C; PackageReference: DWP20-3470X2350TP; PackageDescription: 20-Pin Plastic Small Outline, Body 7.52 x 12.82 mm, Pitch 1.27 mm; Supplier 1: Digi-Key; Supplier Part Number 1: 296-12507-5-ND; Supplier 2: Mouser; Supplier Part Number 2: 595-TPPM0111DWP; Eco-Plan: Green (RoHS & no Sb/Br); Fixed Output Options(V): 3.3, 1.5; Vout(Min)(V): 3.3; Vout2(Max)(V): 1.5; Vout2(Min)(V): 1.5; Mounting Technology: Surface Mount; ComponentLink1Description: Manufacturer URL; ComponentLink1URL: http://www.ti.com/; ComponentLink2Description: Datasheet; ComponentLink2URL: http://www.ti.com/general/docs/lit/getliterature.tsp?genericPartNumber=TPPM0111&fileType=pdf; ComponentLink3Description: Package Specification; ComponentLink3URL: http://www.ti.com/lit/ml/mpds032b/mpds032b.pdf
footprint TI-DWP20-3470X2350TP_N (SOP, 20-Leads, Body 12.825x7.52mm, Pitch 1.27mm, Thermal Pad 3.47x2.35mm, IPC Medium Density)
footprint TI-DWP20-3470X2350TP_L (SOP, 20-Leads, Body 12.825x7.52mm, Pitch 1.27mm, Thermal Pad 3.47x2.35mm, IPC High Density)
footprint TI-DWP20-3470X2350TP_M (SOP, 20-Leads, Body 12.825x7.52mm, Pitch 1.27mm, Thermal Pad 3.47x2.35mm, IPC Low Density)
part A pins: 4 3.3VOUT (power) "3.3-V regulated output", 6 5VCC (power) "5-V input", 8 1.5VOUT (power) "1.5-V regulated output", 20 GND (power) "Ground", 21 EP (power) "Thermal Pad"
part B pins: 1 NC "No connection", 2 NC "No connection", 3 NC "No connection", 5 NC "No connection", 7 NC "No connection", 9 NC "No connection", 10 NC "No connection", 11 NC "No connection", 12 NC "No connection", 13 NC "No connection", 14 NC "No connection", 15 NC "No connection", 16 NC "No connection", 17 NC "No connection", 18 NC "No connection", 19 NC "No connection"

## TPPM0111DWPG4
designator U?
Dual Output LDO, 1.5 A, Fixed 3.3, 1.5 V Output, 4.7 to 5.3 V Input, 20-pin SOPowerPAD (DWP), 0 to 70 degC, Green (RoHS & no Sb/Br); Manufacturer: Texas Instruments; PartNumber: TPPM0111DWPG4; Iout(Max)(A): 1.5; Iout2(A): 0.3; Iq(Typ)(mA): 1; SubFamily: Dual Channel LDO; Vdo(Typ)(mV): 999; Vin(Max)(V): 5.3; Vin(Min)(V): 4.7; Vout(Max)(V): 3.3; DatasheetVersion: SLVS414; PackageVersion: 4147575/C; PackageReference: DWP20-3470X2350TP; PackageDescription: 20-Pin Plastic Small Outline, Body 7.52 x 12.82 mm, Pitch 1.27 mm; Supplier 1: Digi-Key; Supplier Part Number 1: TPPM0111DWPG4-ND; Supplier 2: Mouser; Supplier Part Number 2: 595-TPPM0111DWPG4; Eco-Plan: Green (RoHS & no Sb/Br); Fixed Output Options(V): 3.3, 1.5; Vout(Min)(V): 3.3; Vout2(Max)(V): 1.5; Vout2(Min)(V): 1.5; Mounting Technology: Surface Mount; ComponentLink1Description: Manufacturer URL; ComponentLink1URL: http://www.ti.com/; ComponentLink2Description: Datasheet; ComponentLink2URL: http://www.ti.com/general/docs/lit/getliterature.tsp?genericPartNumber=TPPM0111&fileType=pdf; ComponentLink3Description: Package Specification; ComponentLink3URL: http://www.ti.com/lit/ml/mpds032b/mpds032b.pdf
footprint TI-DWP20-3470X2350TP_N (SOP, 20-Leads, Body 12.825x7.52mm, Pitch 1.27mm, Thermal Pad 3.47x2.35mm, IPC Medium Density)
footprint TI-DWP20-3470X2350TP_L (SOP, 20-Leads, Body 12.825x7.52mm, Pitch 1.27mm, Thermal Pad 3.47x2.35mm, IPC High Density)
footprint TI-DWP20-3470X2350TP_M (SOP, 20-Leads, Body 12.825x7.52mm, Pitch 1.27mm, Thermal Pad 3.47x2.35mm, IPC Low Density)
part A pins: 4 3.3VOUT (power) "3.3-V regulated output", 6 5VCC (power) "5-V input", 8 1.5VOUT (power) "1.5-V regulated output", 20 GND (power) "Ground", 21 EP (power) "Thermal Pad"
part B pins: 1 NC "No connection", 2 NC "No connection", 3 NC "No connection", 5 NC "No connection", 7 NC "No connection", 9 NC "No connection", 10 NC "No connection", 11 NC "No connection", 12 NC "No connection", 13 NC "No connection", 14 NC "No connection", 15 NC "No connection", 16 NC "No connection", 17 NC "No connection", 18 NC "No connection", 19 NC "No connection"

## TPPM0111DWPR
designator U?
Dual Output LDO, 1.5 A, Fixed 3.3, 1.5 V Output, 4.7 to 5.3 V Input, 20-pin SOPowerPAD (DWP), 0 to 70 degC, Green (RoHS & no Sb/Br); Manufacturer: Texas Instruments; PartNumber: TPPM0111DWPR; Iout(Max)(A): 1.5; Iout2(A): 0.3; Iq(Typ)(mA): 1; SubFamily: Dual Channel LDO; Vdo(Typ)(mV): 999; Vin(Max)(V): 5.3; Vin(Min)(V): 4.7; Vout(Max)(V): 3.3; DatasheetVersion: SLVS414; PackageVersion: 4147575/C; PackageReference: DWP20-3470X2350TP; PackageDescription: 20-Pin Plastic Small Outline, Body 7.52 x 12.82 mm, Pitch 1.27 mm; Supplier 1: Digi-Key; Supplier Part Number 1: TPPM0111DWPR-ND; Supplier 2: Mouser; Supplier Part Number 2: 595-TPPM0111DWPR; Eco-Plan: Green (RoHS & no Sb/Br); Fixed Output Options(V): 3.3, 1.5; Vout(Min)(V): 3.3; Vout2(Max)(V): 1.5; Vout2(Min)(V): 1.5; Mounting Technology: Surface Mount; ComponentLink1Description: Manufacturer URL; ComponentLink1URL: http://www.ti.com/; ComponentLink2Description: Datasheet; ComponentLink2URL: http://www.ti.com/general/docs/lit/getliterature.tsp?genericPartNumber=TPPM0111&fileType=pdf; ComponentLink3Description: Package Specification; ComponentLink3URL: http://www.ti.com/lit/ml/mpds032b/mpds032b.pdf
footprint TI-DWP20-3470X2350TP_N (SOP, 20-Leads, Body 12.825x7.52mm, Pitch 1.27mm, Thermal Pad 3.47x2.35mm, IPC Medium Density)
footprint TI-DWP20-3470X2350TP_L (SOP, 20-Leads, Body 12.825x7.52mm, Pitch 1.27mm, Thermal Pad 3.47x2.35mm, IPC High Density)
footprint TI-DWP20-3470X2350TP_M (SOP, 20-Leads, Body 12.825x7.52mm, Pitch 1.27mm, Thermal Pad 3.47x2.35mm, IPC Low Density)
part A pins: 4 3.3VOUT (power) "3.3-V regulated output", 6 5VCC (power) "5-V input", 8 1.5VOUT (power) "1.5-V regulated output", 20 GND (power) "Ground", 21 EP (power) "Thermal Pad"
part B pins: 1 NC "No connection", 2 NC "No connection", 3 NC "No connection", 5 NC "No connection", 7 NC "No connection", 9 NC "No connection", 10 NC "No connection", 11 NC "No connection", 12 NC "No connection", 13 NC "No connection", 14 NC "No connection", 15 NC "No connection", 16 NC "No connection", 17 NC "No connection", 18 NC "No connection", 19 NC "No connection"

## TPPM0111DWPRG4
designator U?
Dual Output LDO, 1.5 A, Fixed 3.3, 1.5 V Output, 4.7 to 5.3 V Input, 20-pin SOPowerPAD (DWP), 0 to 70 degC, Green (RoHS & no Sb/Br); Manufacturer: Texas Instruments; PartNumber: TPPM0111DWPRG4; Iout(Max)(A): 1.5; Iout2(A): 0.3; Iq(Typ)(mA): 1; SubFamily: Dual Channel LDO; Vdo(Typ)(mV): 999; Vin(Max)(V): 5.3; Vin(Min)(V): 4.7; Vout(Max)(V): 3.3; DatasheetVersion: SLVS414; PackageVersion: 4147575/C; PackageReference: DWP20-3470X2350TP; PackageDescription: 20-Pin Plastic Small Outline, Body 7.52 x 12.82 mm, Pitch 1.27 mm; Supplier 1: Digi-Key; Supplier Part Number 1: TPPM0111DWPRG4-ND; Supplier 2: Mouser; Supplier Part Number 2: 595-TPPM0111DWPRG4; Eco-Plan: Green (RoHS & no Sb/Br); Fixed Output Options(V): 3.3, 1.5; Vout(Min)(V): 3.3; Vout2(Max)(V): 1.5; Vout2(Min)(V): 1.5; Mounting Technology: Surface Mount; ComponentLink1Description: Manufacturer URL; ComponentLink1URL: http://www.ti.com/; ComponentLink2Description: Datasheet; ComponentLink2URL: http://www.ti.com/general/docs/lit/getliterature.tsp?genericPartNumber=TPPM0111&fileType=pdf; ComponentLink3Description: Package Specification; ComponentLink3URL: http://www.ti.com/lit/ml/mpds032b/mpds032b.pdf
footprint TI-DWP20-3470X2350TP_N (SOP, 20-Leads, Body 12.825x7.52mm, Pitch 1.27mm, Thermal Pad 3.47x2.35mm, IPC Medium Density)
footprint TI-DWP20-3470X2350TP_L (SOP, 20-Leads, Body 12.825x7.52mm, Pitch 1.27mm, Thermal Pad 3.47x2.35mm, IPC High Density)
footprint TI-DWP20-3470X2350TP_M (SOP, 20-Leads, Body 12.825x7.52mm, Pitch 1.27mm, Thermal Pad 3.47x2.35mm, IPC Low Density)
part A pins: 4 3.3VOUT (power) "3.3-V regulated output", 6 5VCC (power) "5-V input", 8 1.5VOUT (power) "1.5-V regulated output", 20 GND (power) "Ground", 21 EP (power) "Thermal Pad"
part B pins: 1 NC "No connection", 2 NC "No connection", 3 NC "No connection", 5 NC "No connection", 7 NC "No connection", 9 NC "No connection", 10 NC "No connection", 11 NC "No connection", 12 NC "No connection", 13 NC "No connection", 14 NC "No connection", 15 NC "No connection", 16 NC "No connection", 17 NC "No connection", 18 NC "No connection", 19 NC "No connection"

## TPS73HD301PWP
designator U?
Dual Output LDO, 750 mA, Fixed 3.3 V Output, Adjustable 1.2 to 9.75 V Output, 2.9 to 10 V Input, 28-pin HTSSOP (PWP), -40 to 125 degC, Green (RoHS & no Sb/Br); Manufacturer: Texas Instruments; PartNumber: TPS73HD301PWP; Fixed Output Options(V): 3.3; Iout(Max)(A): 0.7; Iq(Typ)(mA): 0.34; SubFamily: Dual Channel LDO; Vdo(Typ)(mV): 353; Vin(Max)(V): 10; Vin(Min)(V): 2.9; Vout2(Max)(V): 9.7; Vout2(Min)(V): 1.2; DatasheetVersion: SLVS167C; PackageVersion: 4073225-6/I; PackageReference: PWP28-5720X1950TP; PackageDescription: 28-Pin Plastic Small Outline, Body 4.4 x 9.7 mm, Pitch 0.65 mm; Supplier 1: Digi-Key; Supplier Part Number 1: 296-2666-5-ND; Supplier 2: Newark; Supplier Part Number 2: 77C0864; Supplier 3: Mouser; Supplier Part Number 3: 595-TPS73HD301PWP; Eco-Plan: Green (RoHS & no Sb/Br); Iout2(A): 0.7; Vout(Max)(V): 3.3; Vout(Min)(V): 3.3; Mounting Technology: Surface Mount; Code_JEDEC: MO-153; ComponentLink1Description: Manufacturer URL; ComponentLink1URL: http://www.ti.com/; ComponentLink2Description: Datasheet; ComponentLink2URL: http://www.ti.com/general/docs/lit/getliterature.tsp?genericPartNumber=TPS73HD301&fileType=pdf; ComponentLink3Description: Package Specification; ComponentLink3URL: http://www.ti.com/litv/pdf/mpds373
footprint TI-PWP28-5720X1950TP_N (SOP, 28-Leads, Body 9.7x4.4mm, Pitch 0.65mm, Thermal Pad 5.72 x 1.95mm, IPC Medium Density)
footprint TI-PWP28-5720X1950TP_L (SOP, 28-Leads, Body 9.7x4.4mm, Pitch 0.65mm, Thermal Pad 5.72 x 1.95mm, IPC High Density)
footprint TI-PWP28-5720X1950TP_M (SOP, 28-Leads, Body 9.7x4.4mm, Pitch 0.65mm, Thermal Pad 5.72 x 1.95mm, IPC Low Density)
part A pins: 3 1GND (power) "Regulator #1 ground", 4 ~{1EN} (in) "Regulator #1 enable, low = enable", 5 1IN (power) "Regulator #1 input supply voltage", 6 1IN (power) "Regulator #1 input supply voltage", 9 2GND (power) "Regulator #2 ground", 10 ~{2EN} (in) "Regulator #2 enable, low = enable", 11 2IN (power) "Regulator #2 input supply voltage", 12 2IN (power) "Regulator #2 input supply voltage", 17 2OUT (power) "Regulator #2 output voltage", 18 2OUT (power) "Regulator #2 output voltage", 19 2SENSE (in) "Regulator #2 output voltage sense (fixed output)", 22 ~{2RESET} (oc) "Regulator #2 reset signal, low = reset", 23 1OUT (power) "Regulator #1 output voltage", 24 1OUT (power) "Regulator #1 output voltage", 25 1FB (in) "Regulator #1 output voltage feedback (adjustable output)", 28 ~{1RESET} (oc) "Regulator #1 reset signal, low = reset", 29 EP "Exposed Thermal Pad"
part B pins: 1 NC "No connection", 2 NC "No connection", 7 NC "No connection", 8 NC "No connection", 13 NC "No connection", 14 NC "No connection", 15 NC "No connection", 16 NC "No connection", 20 NC "No connection", 21 NC "No connection", 26 NC "No connection", 27 NC "No connection"

## TPS73HD301PWPG4
designator U?
Dual Output LDO, 750 mA, Fixed 3.3 V Output, Adjustable 1.2 to 9.75 V Output, 2.9 to 10 V Input, 28-pin HTSSOP (PWP), -40 to 125 degC, Green (RoHS & no Sb/Br); Manufacturer: Texas Instruments; PartNumber: TPS73HD301PWPG4; Fixed Output Options(V): 3.3; Iout(Max)(A): 0.7; Iq(Typ)(mA): 0.34; SubFamily: Dual Channel LDO; Vdo(Typ)(mV): 353; Vin(Max)(V): 10; Vin(Min)(V): 2.9; Vout2(Max)(V): 9.7; Vout2(Min)(V): 1.2; DatasheetVersion: SLVS167C; PackageVersion: 4073225-6/I; PackageReference: PWP28-5720X1950TP; PackageDescription: 28-Pin Plastic Small Outline, Body 4.4 x 9.7 mm, Pitch 0.65 mm; Supplier 1: Digi-Key; Supplier Part Number 1: TPS73HD301PWPG4-ND; Supplier 2: Mouser; Supplier Part Number 2: 595-TPS73HD301PWPG4; Eco-Plan: Green (RoHS & no Sb/Br); Iout2(A): 0.7; Vout(Max)(V): 3.3; Vout(Min)(V): 3.3; Mounting Technology: Surface Mount; Code_JEDEC: MO-153; ComponentLink1Description: Manufacturer URL; ComponentLink1URL: http://www.ti.com/; ComponentLink2Description: Datasheet; ComponentLink2URL: http://www.ti.com/general/docs/lit/getliterature.tsp?genericPartNumber=TPS73HD301&fileType=pdf; ComponentLink3Description: Package Specification; ComponentLink3URL: http://www.ti.com/litv/pdf/mpds373
footprint TI-PWP28-5720X1950TP_N (SOP, 28-Leads, Body 9.7x4.4mm, Pitch 0.65mm, Thermal Pad 5.72 x 1.95mm, IPC Medium Density)
footprint TI-PWP28-5720X1950TP_L (SOP, 28-Leads, Body 9.7x4.4mm, Pitch 0.65mm, Thermal Pad 5.72 x 1.95mm, IPC High Density)
footprint TI-PWP28-5720X1950TP_M (SOP, 28-Leads, Body 9.7x4.4mm, Pitch 0.65mm, Thermal Pad 5.72 x 1.95mm, IPC Low Density)
part A pins: 3 1GND (power) "Regulator #1 ground", 4 ~{1EN} (in) "Regulator #1 enable, low = enable", 5 1IN (power) "Regulator #1 input supply voltage", 6 1IN (power) "Regulator #1 input supply voltage", 9 2GND (power) "Regulator #2 ground", 10 ~{2EN} (in) "Regulator #2 enable, low = enable", 11 2IN (power) "Regulator #2 input supply voltage", 12 2IN (power) "Regulator #2 input supply voltage", 17 2OUT (power) "Regulator #2 output voltage", 18 2OUT (power) "Regulator #2 output voltage", 19 2SENSE (in) "Regulator #2 output voltage sense (fixed output)", 22 ~{2RESET} (oc) "Regulator #2 reset signal, low = reset", 23 1OUT (power) "Regulator #1 output voltage", 24 1OUT (power) "Regulator #1 output voltage", 25 1FB (in) "Regulator #1 output voltage feedback (adjustable output)", 28 ~{1RESET} (oc) "Regulator #1 reset signal, low = reset", 29 EP "Exposed Thermal Pad"
part B pins: 1 NC "No connection", 2 NC "No connection", 7 NC "No connection", 8 NC "No connection", 13 NC "No connection", 14 NC "No connection", 15 NC "No connection", 16 NC "No connection", 20 NC "No connection", 21 NC "No connection", 26 NC "No connection", 27 NC "No connection"